# Altium schematic symbol library Regulator.SchLib: 3 symbols
Pins are listed as number, name and electrical type; pins without a type are passive.

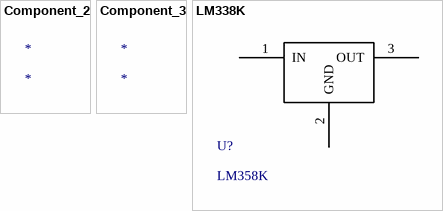
[diagram p0: symbols Component_2 to LM338K]

## Component_2
designator *

## Component_3
designator *

## LM338K
designator U?, comment LM358K
pins: 1 IN, 2 GND, 3 OUT